# Altium footprint library F405_V3.0_Red.PcbLib: 1 footprints
Each footprint in its own frame and in the unit in brackets; x right, y up, seen from the top. Pads: shape width x height; smd on the part's side, far side on the other; paste and mask are expansions set on the pad; w line width, h text height; cw(c..) or ccw(c..) is an arc to the next point about the centre after c.
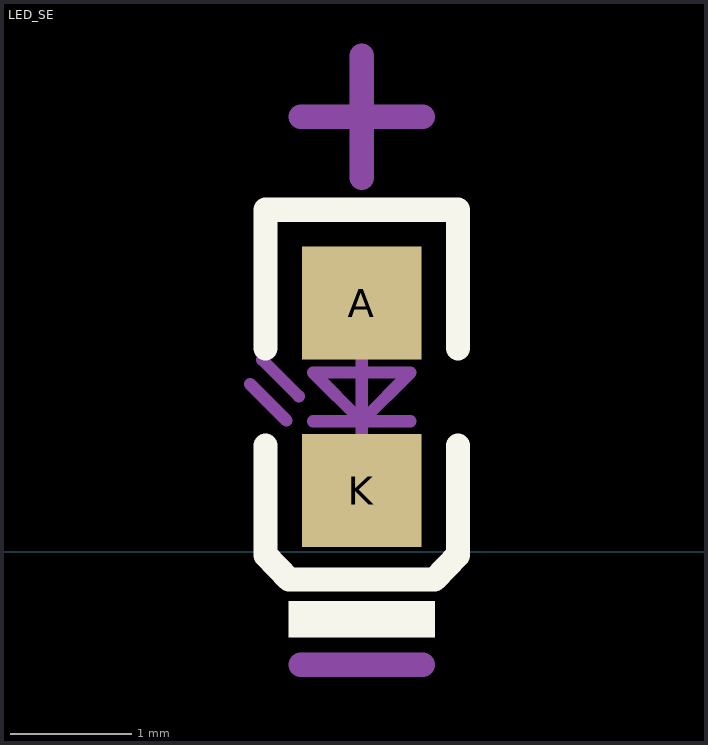
[diagram p0: the footprint, top view; thin cyan lines are the x and y axes]

## LED_SE [mm]
pads (2):
  rect 0.98x0.93 smd: A(3.175,2.04) K(3.175,0.5)
Top Overlay:
  region: 3.775,-0.705 3.775,-0.405 2.575,-0.405 2.575,-0.705
  lines w0.2: 2.385,0.87 2.385,-0.03 2.578,-0.23 3.772,-0.23 3.965,-0.03 3.965,0.87 ; 2.385,1.67 2.385,2.805 3.965,2.805 3.965,1.67
Mechanical 13:
  lines w0.1: 2.258,1.375 2.558,1.075 ; 2.358,1.575 2.658,1.275 ; 2.775,1.07 3.575,1.07 ; 3.175,0.87 3.175,1.67 ; 2.775,1.47 3.175,1.07 3.575,1.47 2.775,1.47
Mechanical 15:
  lines w0.203: 2.675,-0.93 3.675,-0.93 ; 2.675,3.57 3.675,3.57 ; 3.175,3.07 3.175,4.07
3D body "User Library-LED_0603_R.STEP": height 0.6, standoff 0, extent 2.775,0.47 3.575,2.07